# EAGLE library part DAC-MCP4822 (library ds_ic_peripherals)
12-Bit Dual Output DAC with SPI
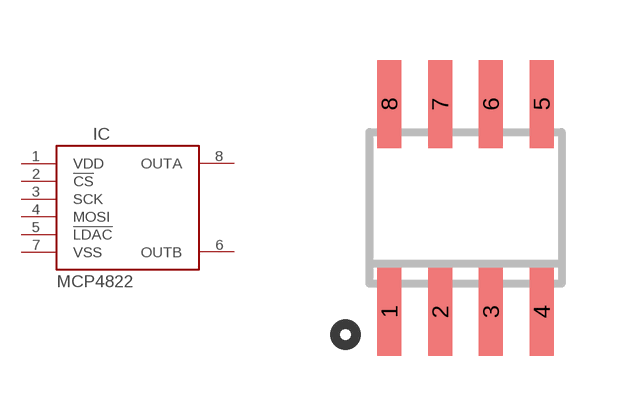
[diagram p9: symbol with the pads of SO8; footprint SO8]

Designator prefix IC

## DAC-MCP4822  [SO8]
1  VDD
2  !CS
3  SCK
4  MOSI
5  !LDAC
6  OUTB
7  VSS
8  OUTA

## Footprint SO8 (pad centres in mm)
SMALL OUTLINE INTEGRATED CIRCUIT
smd 0.6 x 2.2: 1 -1.905,-2.6; 2 -0.635,-2.6; 3 0.635,-2.6; 4 1.905,-2.6; 5 1.905,2.6; 6 0.635,2.6; 7 -0.635,2.6; 8 -1.905,2.6